# Altium footprint library TERM-BLK-508MM-2X1.PcbLib: 1 footprints
Each footprint in its own frame and in the unit in brackets; x right, y up, seen from the top. Pads: shape width x height; smd on the part's side, far side on the other; paste and mask are expansions set on the pad; w line width, h text height; cw(c..) or ccw(c..) is an arc to the next point about the centre after c.
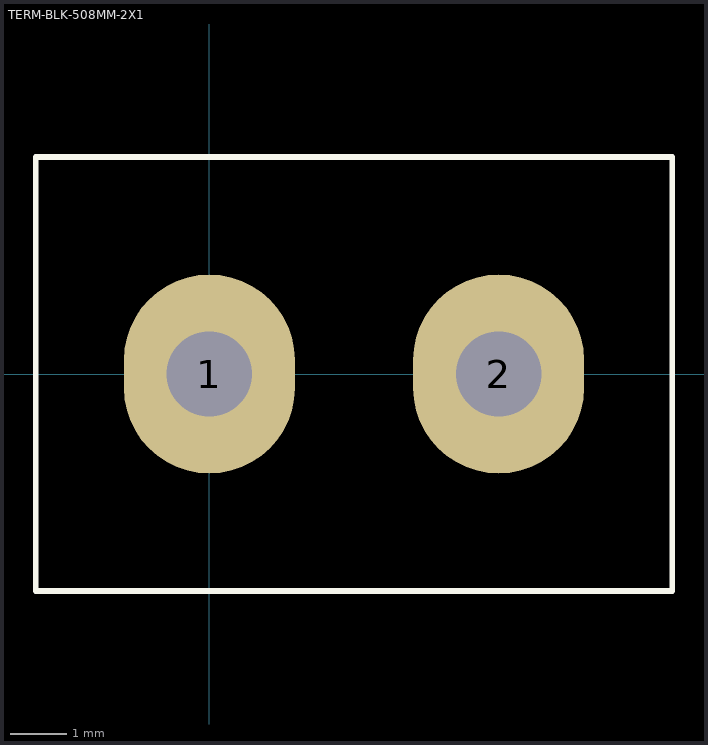
[diagram p0: the footprint, top view; thin cyan lines are the x and y axes]

## TERM-BLK-508MM-2X1 [mm]
pads (2):
  oval 3x3.5 hole 1.5: 1(0,0) 2(5.08,0)
Top Overlay:
  lines w0.1: -3.048,-3.81 8.128,-3.81 8.128,3.81 -3.048,3.81 -3.048,-3.81